# Altium integrated library MolexMicroFit3_2POS_RA.IntLib: 1 symbol
Pins are listed as number, name and electrical type; pins without a type are passive.

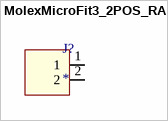
[diagram p0: symbol MolexMicroFit3_2POS_RA]

## MolexMicroFit3_2POS_RA
designator J?
CONN HEADER 2POS R/A W/NAIL SMD / Manufacturer PN: 43650-0213
footprint MolexMicroFit3_2POS_RA
pins: 1, 2